# EAGLE library part XBEE (library xbee)
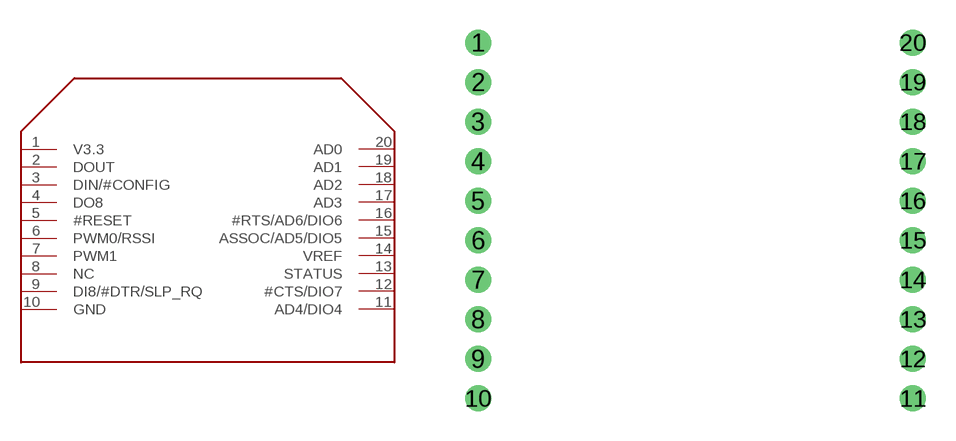
[diagram p0: symbol with the pads of XBEE; footprint XBEE]

Designator prefix -

## XBEE  [XBEE]
1  V3.3
2  DOUT
3  DIN/#CONFIG
4  DO8
5  #RESET
6  PWM0/RSSI
7  PWM1
8  NC
9  DI8/#DTR/SLP_RQ
10  GND
11  AD4/DIO4
12  #CTS/DIO7
13  STATUS
14  VREF
15  ASSOC/AD5/DIO5
16  #RTS/AD6/DIO6
17  AD3
18  AD2
19  AD1
20  AD0

## Footprint XBEE (pad centres in mm)
drill 0.8 round: 1 -4,16; 2 -4,14; 3 -4,12; 4 -4,10; 5 -4,8; 6 -4,6; 7 -4,4; 8 -4,2; 9 -4,0; 10 -4,-2; 11 18,-2; 12 18,0; 13 18,2; 14 18,4; 15 18,6; 16 18,8; 17 18,10; 18 18,12; 19 18,14; 20 18,16